# EAGLE library part ZXGD3108 (library U-Linear)
ACTIVE OR'ING MOSFET CONTROLLER
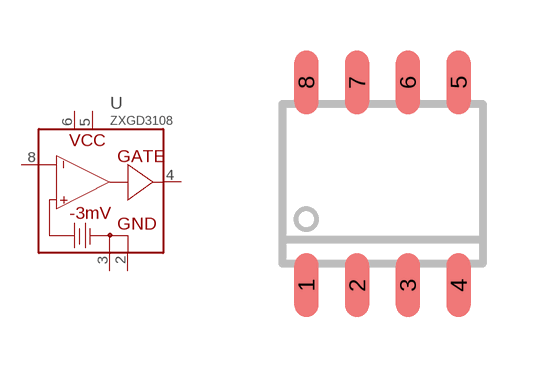
[diagram p3: symbol with the pads of SOIC8; footprint SOIC8]

Designator prefix U

## ZXGD3108  [SOIC8]
2  GND  pwr
3  GND  pwr
4  GATE  out
5  VCC  pwr
6  VCC  pwr
8  DRAIN  hiz

## Footprint SOIC8 (pad centres in mm)
8POS Standard SMALLl OUTLINE Package (SO/SOIC) Narrow Body
smd 0.6 x 1.6: 1 -1.905,-2.54; 2 -0.635,-2.54; 3 0.635,-2.54; 4 1.905,-2.54; 5 1.905,2.54; 6 0.635,2.54; 7 -0.635,2.54; 8 -1.905,2.54